# Altium integrated library Silicon Labs Low-Power MCUs.IntLib: 64 symbols (part 1 of 4)
Pins are listed as number, name and electrical type; pins without a type are passive.

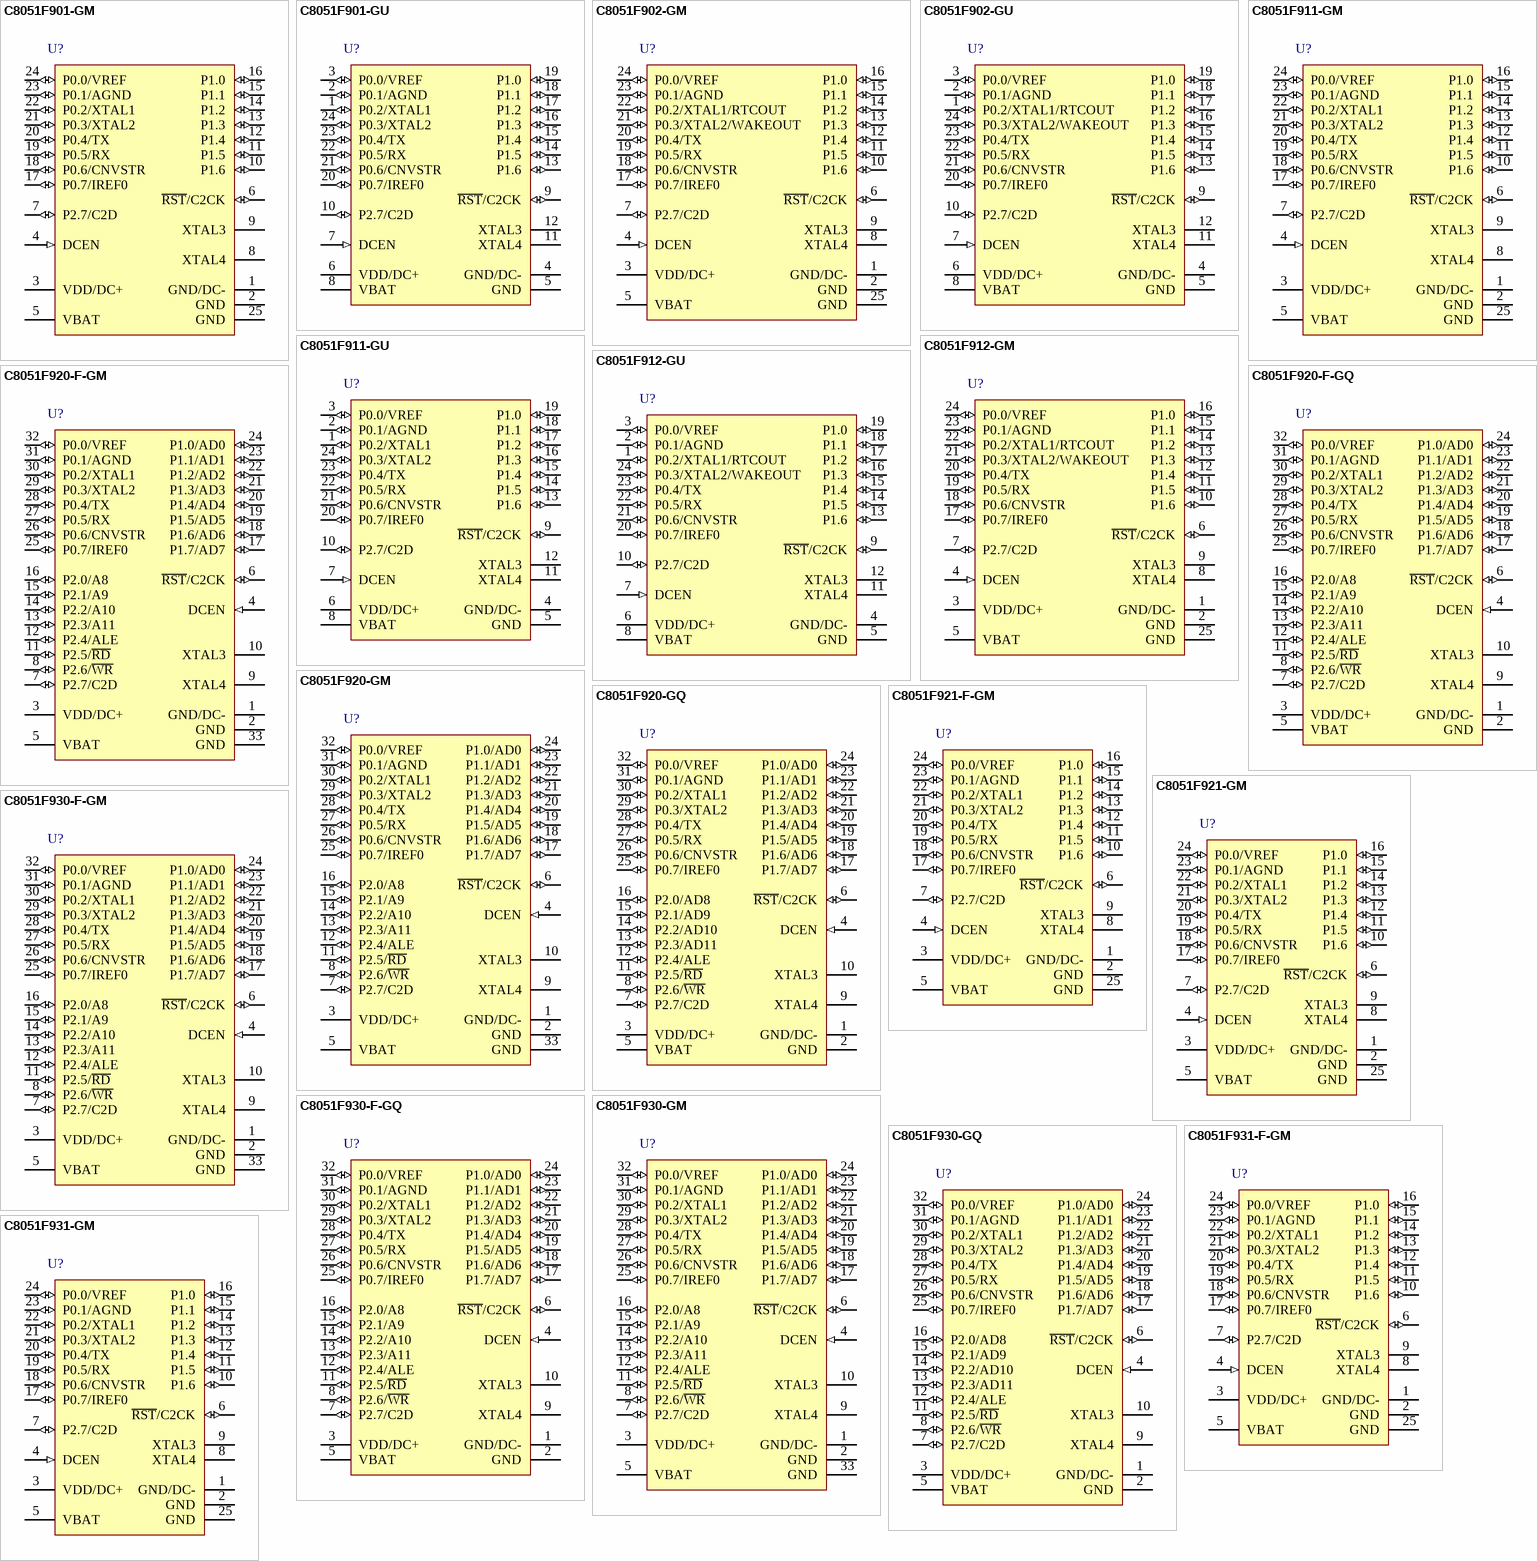
[diagram p0: symbols C8051F901-GM to C8051F931-GM]

## C8051F901-GM
designator U?
Single / Dual Battery, 0.9 to 3.6 V, smaRTClock, 10-Bit ADC MCU, 24.5 MHz, 0.75 kB RAM, 8 kB Flash, -40 to 85 degC, 24-pin QFN; Manufacturer: Silicon Labs; PartNumber: C8051F901-GM; ADC 1: 10-bit, 15-ch., 300 ksps; AEC-Q100: FALSE; Comparators: 2; Debug Interface: C2; Dig I/O Pins: 16; Flash: 8 kB; Internal Osc. Accuracy: +/-2%; MCU Core: 8051; MHz: 24.5; PCA Channels: 6; RAM: 0.75 kB; Temp Sensor: TRUE; Timers (16-bit): 4; Sub-Family: Low-Power MCUs; DatasheetVersion: Rev. 1.1; PackageReference: QFN-24; PackageDescription: 24-Pin Quad-Flat No-Leads Package, Body 4 x 4 mm, Pitch 0.5 mm; Supplier 1: Digi-Key; Supplier Part Number 1: 336-1846-5-ND; Supplier 2: Mouser; Supplier Part Number 2: 634-C8051F901-GM; Mounting Technology: Surface Mount; Code_JEDEC: MO-220; Code_IPC: J-STD-020; ComponentLink1Description: Manufacturer URL; ComponentLink1URL: http://www.silabs.com/; ComponentLink2Description: Datasheet; ComponentLink2URL: http://www.silabs.com/Support Documents/TechnicalDocs/C8051F91x-90x.pdf; ComponentLink3Description: Package Specification; ComponentLink3URL: http://www.silabs.com/Support%20Documents/TechnicalDocs/C8051F93x-92x.pdf
footprint SLAB-QFN-24-2675x2675TP_N (QFN, 24-Leads, Body 4x4mm, Pitch 0.5mm, Thermal Pad 2.68x2.68mm, IPC Medium Density)
footprint SLAB-QFN-24-2675x2675TP_L (QFN, 24-Leads, Body 4x4mm, Pitch 0.5mm, Thermal Pad 2.68x2.68mm, IPC High Density)
footprint SLAB-QFN-24-2675x2675TP_M (QFN, 24-Leads, Body 4x4mm, Pitch 0.5mm, Thermal Pad 2.68x2.68mm, IPC Low Density)
pins: 1 GND/DC- (power), 2 GND (power) "Required Ground.", 3 VDD/DC+ (power), 4 DCEN (in) "DC-DC Enable Pin. In single-cell battery mode, this pin must be connected to VBAT through a 0.68 uH inductor. In dual-cell battery mode, this pin must be connected directly to ground.", 5 VBAT (power) "Battery Supply Voltage.C8051F911/01 devices: Must be 0.9 to 1.8 V in single-cell battery mode and 1.8 to 3.6 V in  dual-cell battery mode.", 6 ~{RST}/C2CK (io), 7 P2.7/C2D (io), 8 XTAL4 "SmaRTClock Oscillator Crystal Output.See Section 20 for a complete description.", 9 XTAL3 "SmaRTClock Oscillator Crystal Input.See Section 20 for a complete description.", 10 P1.6 (io) "Port 1.6.", 11 P1.5 (io) "Port 1.5.", 12 P1.4 (io) "Port 1.4.", 13 P1.3 (io) "Port 1.3.", 14 P1.2 (io) "Port 1.2.", 15 P1.1 (io) "Port 1.1.", 16 P1.0 (io) "Port 1.0.", 17 P0.7/IREF0 (io), 18 P0.6/CNVSTR (io), 19 P0.5/RX (io), 20 P0.4/TX (io), 21 P0.3/XTAL2 (io), 22 P0.2/XTAL1 (io), 23 P0.1/AGND (io), 24 P0.0/VREF (io), 25 GND (power) "GND (Optional Connection)"

## C8051F901-GU
designator U?
Single / Dual Battery, 0.9 to 3.6 V, smaRTClock, 10-Bit ADC MCU, 24.5 MHz, 0.75 kB RAM, 8 kB Flash, -40 to 85 degC, 24-pin SOP; Manufacturer: Silicon Labs; PartNumber: C8051F901-GU; ADC 1: 10-bit, 15-ch., 300 ksps; AEC-Q100: FALSE; Comparators: 2; Debug Interface: C2; Dig I/O Pins: 16; Flash: 8 kB; Internal Osc. Accuracy: +/-2%; MCU Core: 8051; MHz: 24.5; PCA Channels: 6; RAM: 0.75 kB; Temp Sensor: TRUE; Timers (16-bit): 4; Sub-Family: Low-Power MCUs; DatasheetVersion: Rev. 1.1; PackageReference: QSOP-24; PackageDescription: 24-Pin Quarter-Size Small-Outline Package, Body 8.65 x 3.9 mm, Pitch 0.635 mm; Supplier 1: Digi-Key; Supplier Part Number 1: 336-1847-5-ND; Supplier 2: Mouser; Supplier Part Number 2: 634-C8051F901-GU; Mounting Technology: Surface Mount; Code_JEDEC: MO-147; Code_IPC: J-STD-020; ComponentLink1Description: Manufacturer URL; ComponentLink1URL: http://www.silabs.com/; ComponentLink2Description: Datasheet; ComponentLink2URL: http://www.silabs.com/Support Documents/TechnicalDocs/C8051F91x-90x.pdf; ComponentLink3Description: Package Specification; ComponentLink3URL: http://www.silabs.com/Support%20Documents/TechnicalDocs/C8051F99x.pdf
footprint SLAB-QSOP-24_N (SOP, 24-Leads, Body 8.65x3.9mm, Pitch 0.635mm, IPC Medium Density)
footprint SLAB-QSOP-24_L (SOP, 24-Leads, Body 8.65x3.9mm, Pitch 0.635mm, IPC High Density)
footprint SLAB-QSOP-24_M (SOP, 24-Leads, Body 8.65x3.9mm, Pitch 0.635mm, IPC Low Density)
pins: 1 P0.2/XTAL1 (io), 2 P0.1/AGND (io), 3 P0.0/VREF (io), 4 GND/DC- (power), 5 GND (power) "Required Ground.", 6 VDD/DC+ (power), 7 DCEN (in) "DC-DC Enable Pin. In single-cell battery mode, this pin must be connected to VBAT through a 0.68 uH inductor. In dual-cell battery mode, this pin must be connected directly to ground.", 8 VBAT (power) "Battery Supply Voltage.C8051F912/02 devices: Must be 0.9 to 3.6 V in single-cell battery mode and 1.8 to 3.6 V in dual-cell battery mode.", 9 ~{RST}/C2CK (io), 10 P2.7/C2D (io), 11 XTAL4 "SmaRTClock Oscillator Crystal Output.See Section 20 for a complete description.", 12 XTAL3 "SmaRTClock Oscillator Crystal Input.See Section 20 for a complete description.", 13 P1.6 (io) "Port 1.6.", 14 P1.5 (io) "Port 1.5.", 15 P1.4 (io) "Port 1.4.", 16 P1.3 (io) "Port 1.3.", 17 P1.2 (io) "Port 1.2.", 18 P1.1 (io) "Port 1.1.", 19 P1.0 (io) "Port 1.0.", 20 P0.7/IREF0 (io), 21 P0.6/CNVSTR (io), 22 P0.5/RX (io), 23 P0.4/TX (io), 24 P0.3/XTAL2 (io)

## C8051F902-GM
designator U?
Single / Dual Battery, 0.9 to 3.6 V, smaRTClock, 12-Bit ADC MCU, 24.5 MHz, 0.75 kB RAM, 8 kB Flash, -40 to 85 degC, 24-pin QFN; Manufacturer: Silicon Labs; PartNumber: C8051F902-GM; ADC 1: 12-bit, 15-ch., 75 ksps; AEC-Q100: FALSE; Comparators: 2; Debug Interface: C2; Dig I/O Pins: 16; Flash: 8 kB; Internal Osc. Accuracy: +/-2%; MCU Core: 8051; MHz: 24.5; PCA Channels: 6; RAM: 0.75 kB; Temp Sensor: TRUE; Timers (16-bit): 4; Sub-Family: Low-Power MCUs; DatasheetVersion: Rev. 1.1; PackageReference: QFN-24; PackageDescription: 24-Pin Quad-Flat No-Leads Package, Body 4 x 4 mm, Pitch 0.5 mm; Supplier 1: Digi-Key; Supplier Part Number 1: 336-1848-5-ND; Supplier 2: Mouser; Supplier Part Number 2: 634-C8051F902-GM; Mounting Technology: Surface Mount; Code_JEDEC: MO-220; Code_IPC: J-STD-020; ComponentLink1Description: Manufacturer URL; ComponentLink1URL: http://www.silabs.com/; ComponentLink2Description: Datasheet; ComponentLink2URL: http://www.silabs.com/Support Documents/TechnicalDocs/C8051F91x-90x.pdf; ComponentLink3Description: Package Specification; ComponentLink3URL: http://www.silabs.com/Support%20Documents/TechnicalDocs/C8051F93x-92x.pdf
footprint SLAB-QFN-24-2675x2675TP_N (QFN, 24-Leads, Body 4x4mm, Pitch 0.5mm, Thermal Pad 2.68x2.68mm, IPC Medium Density)
footprint SLAB-QFN-24-2675x2675TP_L (QFN, 24-Leads, Body 4x4mm, Pitch 0.5mm, Thermal Pad 2.68x2.68mm, IPC High Density)
footprint SLAB-QFN-24-2675x2675TP_M (QFN, 24-Leads, Body 4x4mm, Pitch 0.5mm, Thermal Pad 2.68x2.68mm, IPC Low Density)
pins: 1 GND/DC- (power), 2 GND (power) "Required Ground.", 3 VDD/DC+ (power), 4 DCEN (in) "DC-DC Enable Pin. In single-cell battery mode, this pin must be connected to VBAT through a 0.68 uH inductor. In dual-cell battery mode, this pin must be connected directly to ground.", 5 VBAT (power) "Battery Supply Voltage.C8051F912/02 devices: Must be 0.9 to 3.6 V in single-cell battery mode and 1.8 to 3.6 V in dual-cell battery mode.", 6 ~{RST}/C2CK (io), 7 P2.7/C2D (io), 8 XTAL4 "SmaRTClock Oscillator Crystal Output.See Section 20 for a complete description.", 9 XTAL3 "SmaRTClock Oscillator Crystal Input.See Section 20 for a complete description.", 10 P1.6 (io) "Port 1.6.", 11 P1.5 (io) "Port 1.5.", 12 P1.4 (io) "Port 1.4.", 13 P1.3 (io) "Port 1.3.", 14 P1.2 (io) "Port 1.2.", 15 P1.1 (io) "Port 1.1.", 16 P1.0 (io) "Port 1.0.", 17 P0.7/IREF0 (io), 18 P0.6/CNVSTR (io), 19 P0.5/RX (io), 20 P0.4/TX (io), 21 P0.3/XTAL2/WAKEOUT (io), 22 P0.2/XTAL1/RTCOUT (io), 23 P0.1/AGND (io), 24 P0.0/VREF (io), 25 GND (power) "GND (Optional Connection)"

## C8051F902-GU
designator U?
Single / Dual Battery, 0.9 to 3.6 V, smaRTClock, 12-Bit ADC MCU, 24.5 MHz, 0.75 kB RAM, 8 kB Flash, -40 to 85 degC, 24-pin SOP; Manufacturer: Silicon Labs; PartNumber: C8051F902-GU; ADC 1: 12-bit, 15-ch., 75 ksps; AEC-Q100: FALSE; Comparators: 2; Debug Interface: C2; Dig I/O Pins: 16; Flash: 8 kB; Internal Osc. Accuracy: +/-2%; MCU Core: 8051; MHz: 24.5; PCA Channels: 6; RAM: 0.75 kB; Temp Sensor: TRUE; Timers (16-bit): 4; Sub-Family: Low-Power MCUs; DatasheetVersion: Rev. 1.1; PackageReference: QSOP-24; PackageDescription: 24-Pin Quarter-Size Small-Outline Package, Body 8.65 x 3.9 mm, Pitch 0.635 mm; Supplier 1: Digi-Key; Supplier Part Number 1: 336-1849-5-ND; Supplier 2: Mouser; Supplier Part Number 2: 634-C8051F902-GU; Mounting Technology: Surface Mount; Code_JEDEC: MO-147; Code_IPC: J-STD-020; ComponentLink1Description: Manufacturer URL; ComponentLink1URL: http://www.silabs.com/; ComponentLink2Description: Datasheet; ComponentLink2URL: http://www.silabs.com/Support Documents/TechnicalDocs/C8051F91x-90x.pdf; ComponentLink3Description: Package Specification; ComponentLink3URL: http://www.silabs.com/Support%20Documents/TechnicalDocs/C8051F99x.pdf
footprint SLAB-QSOP-24_N (SOP, 24-Leads, Body 8.65x3.9mm, Pitch 0.635mm, IPC Medium Density)
footprint SLAB-QSOP-24_L (SOP, 24-Leads, Body 8.65x3.9mm, Pitch 0.635mm, IPC High Density)
footprint SLAB-QSOP-24_M (SOP, 24-Leads, Body 8.65x3.9mm, Pitch 0.635mm, IPC Low Density)
pins: 1 P0.2/XTAL1/RTCOUT (io), 2 P0.1/AGND (io), 3 P0.0/VREF (io), 4 GND/DC- (power), 5 GND (power) "Required Ground.", 6 VDD/DC+ (power), 7 DCEN (in) "DC-DC Enable Pin. In single-cell battery mode, this pin must be connected to VBAT through a 0.68 uH inductor. In dual-cell battery mode, this pin must be connected directly to ground.", 8 VBAT (power) "Battery Supply Voltage.C8051F912/02 devices: Must be 0.9 to 3.6 V in single-cell battery mode and 1.8 to 3.6 V in dual-cell battery mode.", 9 ~{RST}/C2CK (io), 10 P2.7/C2D (io), 11 XTAL4 "SmaRTClock Oscillator Crystal Output.See Section 20 for a complete description.", 12 XTAL3 "SmaRTClock Oscillator Crystal Input.See Section 20 for a complete description.", 13 P1.6 (io) "Port 1.6.", 14 P1.5 (io) "Port 1.5.", 15 P1.4 (io) "Port 1.4.", 16 P1.3 (io) "Port 1.3.", 17 P1.2 (io) "Port 1.2.", 18 P1.1 (io) "Port 1.1.", 19 P1.0 (io) "Port 1.0.", 20 P0.7/IREF0 (io), 21 P0.6/CNVSTR (io), 22 P0.5/RX (io), 23 P0.4/TX (io), 24 P0.3/XTAL2/WAKEOUT (io)

## C8051F911-GM
designator U?
Single / Dual Battery, 0.9 to 3.6 V, smaRTClock, 10-Bit ADC MCU, 24.5 MHz, 0.75 kB RAM, 16 kB Flash, -40 to 85 degC, 24-pin QFN; Manufacturer: Silicon Labs; PartNumber: C8051F911-GM; ADC 1: 10-bit, 15-ch., 300 ksps; AEC-Q100: FALSE; Comparators: 2; Debug Interface: C2; Dig I/O Pins: 16; Flash: 16 kB; Internal Osc. Accuracy: +/-2%; MCU Core: 8051; MHz: 24.5; PCA Channels: 6; RAM: 0.75 kB; Temp Sensor: TRUE; Timers (16-bit): 4; Sub-Family: Low-Power MCUs; DatasheetVersion: Rev. 1.1; PackageReference: QFN-24; PackageDescription: 24-Pin Quad-Flat No-Leads Package, Body 4 x 4 mm, Pitch 0.5 mm; Supplier 1: Digi-Key; Supplier Part Number 1: 336-1850-5-ND; Supplier 2: Mouser; Supplier Part Number 2: 634-C8051F911-GM; Mounting Technology: Surface Mount; Code_JEDEC: MO-220; Code_IPC: J-STD-020; ComponentLink1Description: Manufacturer URL; ComponentLink1URL: http://www.silabs.com/; ComponentLink2Description: Datasheet; ComponentLink2URL: http://www.silabs.com/Support Documents/TechnicalDocs/C8051F91x-90x.pdf; ComponentLink3Description: Package Specification; ComponentLink3URL: http://www.silabs.com/Support%20Documents/TechnicalDocs/C8051F93x-92x.pdf
footprint SLAB-QFN-24-2675x2675TP_N (QFN, 24-Leads, Body 4x4mm, Pitch 0.5mm, Thermal Pad 2.68x2.68mm, IPC Medium Density)
footprint SLAB-QFN-24-2675x2675TP_L (QFN, 24-Leads, Body 4x4mm, Pitch 0.5mm, Thermal Pad 2.68x2.68mm, IPC High Density)
footprint SLAB-QFN-24-2675x2675TP_M (QFN, 24-Leads, Body 4x4mm, Pitch 0.5mm, Thermal Pad 2.68x2.68mm, IPC Low Density)
pins: 1 GND/DC- (power), 2 GND (power) "Required Ground.", 3 VDD/DC+ (power), 4 DCEN (in) "DC-DC Enable Pin. In single-cell battery mode, this pin must be connected to VBAT through a 0.68 uH inductor. In dual-cell battery mode, this pin must be connected directly to ground.", 5 VBAT (power) "Battery Supply Voltage.C8051F911/01 devices: Must be 0.9 to 1.8 V in single-cell battery mode and 1.8 to 3.6 V in  dual-cell battery mode.", 6 ~{RST}/C2CK (io), 7 P2.7/C2D (io), 8 XTAL4 "SmaRTClock Oscillator Crystal Output.See Section 20 for a complete description.", 9 XTAL3 "SmaRTClock Oscillator Crystal Input.See Section 20 for a complete description.", 10 P1.6 (io) "Port 1.6.", 11 P1.5 (io) "Port 1.5.", 12 P1.4 (io) "Port 1.4.", 13 P1.3 (io) "Port 1.3.", 14 P1.2 (io) "Port 1.2.", 15 P1.1 (io) "Port 1.1.", 16 P1.0 (io) "Port 1.0.", 17 P0.7/IREF0 (io), 18 P0.6/CNVSTR (io), 19 P0.5/RX (io), 20 P0.4/TX (io), 21 P0.3/XTAL2 (io), 22 P0.2/XTAL1 (io), 23 P0.1/AGND (io), 24 P0.0/VREF (io), 25 GND (power) "GND (Optional Connection)"

## C8051F911-GU
designator U?
Single / Dual Battery, 0.9 to 3.6 V, smaRTClock, 10-Bit ADC MCU, 24.5 MHz, 0.75 kB RAM, 16 kB Flash, -40 to 85 degC, 24-pin SOP; Manufacturer: Silicon Labs; PartNumber: C8051F911-GU; ADC 1: 10-bit, 15-ch., 300 ksps; AEC-Q100: FALSE; Comparators: 2; Debug Interface: C2; Dig I/O Pins: 16; Flash: 16 kB; Internal Osc. Accuracy: +/-2%; MCU Core: 8051; MHz: 24.5; PCA Channels: 6; RAM: 0.75 kB; Temp Sensor: TRUE; Timers (16-bit): 4; Sub-Family: Low-Power MCUs; DatasheetVersion: Rev. 1.1; PackageReference: QSOP-24; PackageDescription: 24-Pin Quarter-Size Small-Outline Package, Body 8.65 x 3.9 mm, Pitch 0.635 mm; Supplier 1: Digi-Key; Supplier Part Number 1: 336-1851-5-ND; Supplier 2: Mouser; Supplier Part Number 2: 634-C8051F911-GU; Mounting Technology: Surface Mount; Code_JEDEC: MO-147; Code_IPC: J-STD-020; ComponentLink1Description: Manufacturer URL; ComponentLink1URL: http://www.silabs.com/; ComponentLink2Description: Datasheet; ComponentLink2URL: http://www.silabs.com/Support Documents/TechnicalDocs/C8051F91x-90x.pdf; ComponentLink3Description: Package Specification; ComponentLink3URL: http://www.silabs.com/Support%20Documents/TechnicalDocs/C8051F99x.pdf
footprint SLAB-QSOP-24_N (SOP, 24-Leads, Body 8.65x3.9mm, Pitch 0.635mm, IPC Medium Density)
footprint SLAB-QSOP-24_L (SOP, 24-Leads, Body 8.65x3.9mm, Pitch 0.635mm, IPC High Density)
footprint SLAB-QSOP-24_M (SOP, 24-Leads, Body 8.65x3.9mm, Pitch 0.635mm, IPC Low Density)
pins: 1 P0.2/XTAL1 (io), 2 P0.1/AGND (io), 3 P0.0/VREF (io), 4 GND/DC- (power), 5 GND (power) "Required Ground.", 6 VDD/DC+ (power), 7 DCEN (in) "DC-DC Enable Pin. In single-cell battery mode, this pin must be connected to VBAT through a 0.68 uH inductor. In dual-cell battery mode, this pin must be connected directly to ground.", 8 VBAT (power) "Battery Supply Voltage.C8051F912/02 devices: Must be 0.9 to 3.6 V in single-cell battery mode and 1.8 to 3.6 V in dual-cell battery mode.", 9 ~{RST}/C2CK (io), 10 P2.7/C2D (io), 11 XTAL4 "SmaRTClock Oscillator Crystal Output.See Section 20 for a complete description.", 12 XTAL3 "SmaRTClock Oscillator Crystal Input.See Section 20 for a complete description.", 13 P1.6 (io) "Port 1.6.", 14 P1.5 (io) "Port 1.5.", 15 P1.4 (io) "Port 1.4.", 16 P1.3 (io) "Port 1.3.", 17 P1.2 (io) "Port 1.2.", 18 P1.1 (io) "Port 1.1.", 19 P1.0 (io) "Port 1.0.", 20 P0.7/IREF0 (io), 21 P0.6/CNVSTR (io), 22 P0.5/RX (io), 23 P0.4/TX (io), 24 P0.3/XTAL2 (io)

## C8051F912-GM
designator U?
Single / Dual Battery, 0.9 to 3.6 V, smaRTClock, 12-Bit ADC MCU, 24.5 MHz, 0.75 kB RAM, 16 kB Flash, -40 to 85 degC, 24-pin QFN; Manufacturer: Silicon Labs; PartNumber: C8051F912-GM; ADC 1: 12-bit, 15-ch., 75 ksps; AEC-Q100: FALSE; Comparators: 2; Debug Interface: C2; Dig I/O Pins: 16; Flash: 16 kB; Internal Osc. Accuracy: +/-2%; MCU Core: 8051; MHz: 24.5; PCA Channels: 6; RAM: 0.75 kB; Temp Sensor: TRUE; Timers (16-bit): 4; Sub-Family: Low-Power MCUs; DatasheetVersion: Rev. 1.1; PackageReference: QFN-24; PackageDescription: 24-Pin Quad-Flat No-Leads Package, Body 4 x 4 mm, Pitch 0.5 mm; Supplier 1: Digi-Key; Supplier Part Number 1: C8051F912-GM-ND; Supplier 2: Mouser; Supplier Part Number 2: 634-C8051F912-GM; Mounting Technology: Surface Mount; Code_JEDEC: MO-220; Code_IPC: J-STD-020; ComponentLink1Description: Manufacturer URL; ComponentLink1URL: http://www.silabs.com/; ComponentLink2Description: Datasheet; ComponentLink2URL: http://www.silabs.com/Support Documents/TechnicalDocs/C8051F91x-90x.pdf; ComponentLink3Description: Package Specification; ComponentLink3URL: http://www.silabs.com/Support%20Documents/TechnicalDocs/C8051F93x-92x.pdf
footprint SLAB-QFN-24-2675x2675TP_N (QFN, 24-Leads, Body 4x4mm, Pitch 0.5mm, Thermal Pad 2.68x2.68mm, IPC Medium Density)
footprint SLAB-QFN-24-2675x2675TP_L (QFN, 24-Leads, Body 4x4mm, Pitch 0.5mm, Thermal Pad 2.68x2.68mm, IPC High Density)
footprint SLAB-QFN-24-2675x2675TP_M (QFN, 24-Leads, Body 4x4mm, Pitch 0.5mm, Thermal Pad 2.68x2.68mm, IPC Low Density)
pins: 1 GND/DC- (power), 2 GND (power) "Required Ground.", 3 VDD/DC+ (power), 4 DCEN (in) "DC-DC Enable Pin. In single-cell battery mode, this pin must be connected to VBAT through a 0.68 uH inductor. In dual-cell battery mode, this pin must be connected directly to ground.", 5 VBAT (power) "Battery Supply Voltage.C8051F912/02 devices: Must be 0.9 to 3.6 V in single-cell battery mode and 1.8 to 3.6 V in dual-cell battery mode.", 6 ~{RST}/C2CK (io), 7 P2.7/C2D (io), 8 XTAL4 "SmaRTClock Oscillator Crystal Output.See Section 20 for a complete description.", 9 XTAL3 "SmaRTClock Oscillator Crystal Input.See Section 20 for a complete description.", 10 P1.6 (io) "Port 1.6.", 11 P1.5 (io) "Port 1.5.", 12 P1.4 (io) "Port 1.4.", 13 P1.3 (io) "Port 1.3.", 14 P1.2 (io) "Port 1.2.", 15 P1.1 (io) "Port 1.1.", 16 P1.0 (io) "Port 1.0.", 17 P0.7/IREF0 (io), 18 P0.6/CNVSTR (io), 19 P0.5/RX (io), 20 P0.4/TX (io), 21 P0.3/XTAL2/WAKEOUT (io), 22 P0.2/XTAL1/RTCOUT (io), 23 P0.1/AGND (io), 24 P0.0/VREF (io), 25 GND (power) "GND (Optional Connection)"

## C8051F912-GU
designator U?
Single / Dual Battery, 0.9 to 3.6 V, smaRTClock, 12-Bit ADC MCU, 24.5 MHz, 0.75 kB RAM, 16 kB Flash, -40 to 85 degC, 24-pin SOP; Manufacturer: Silicon Labs; PartNumber: C8051F912-GU; ADC 1: 12-bit, 15-ch., 75 ksps; AEC-Q100: FALSE; Comparators: 2; Debug Interface: C2; Dig I/O Pins: 16; Flash: 16 kB; Internal Osc. Accuracy: +/-2%; MCU Core: 8051; MHz: 24.5; PCA Channels: 6; RAM: 0.75 kB; Temp Sensor: TRUE; Timers (16-bit): 4; Sub-Family: Low-Power MCUs; DatasheetVersion: Rev. 1.1; PackageReference: QSOP-24; PackageDescription: 24-Pin Quarter-Size Small-Outline Package, Body 8.65 x 3.9 mm, Pitch 0.635 mm; Supplier 1: Digi-Key; Supplier Part Number 1: 336-1852-5-ND; Supplier 2: Mouser; Supplier Part Number 2: 634-C8051F912-GU; Mounting Technology: Surface Mount; Code_JEDEC: MO-147; Code_IPC: J-STD-020; ComponentLink1Description: Manufacturer URL; ComponentLink1URL: http://www.silabs.com/; ComponentLink2Description: Datasheet; ComponentLink2URL: http://www.silabs.com/Support Documents/TechnicalDocs/C8051F91x-90x.pdf; ComponentLink3Description: Package Specification; ComponentLink3URL: http://www.silabs.com/Support%20Documents/TechnicalDocs/C8051F99x.pdf
footprint SLAB-QSOP-24_N (SOP, 24-Leads, Body 8.65x3.9mm, Pitch 0.635mm, IPC Medium Density)
footprint SLAB-QSOP-24_L (SOP, 24-Leads, Body 8.65x3.9mm, Pitch 0.635mm, IPC High Density)
footprint SLAB-QSOP-24_M (SOP, 24-Leads, Body 8.65x3.9mm, Pitch 0.635mm, IPC Low Density)
pins: 1 P0.2/XTAL1/RTCOUT (io), 2 P0.1/AGND (io), 3 P0.0/VREF (io), 4 GND/DC- (power), 5 GND (power) "Required Ground.", 6 VDD/DC+ (power), 7 DCEN (in) "DC-DC Enable Pin. In single-cell battery mode, this pin must be connected to VBAT through a 0.68 uH inductor. In dual-cell battery mode, this pin must be connected directly to ground.", 8 VBAT (power) "Battery Supply Voltage.C8051F912/02 devices: Must be 0.9 to 3.6 V in single-cell battery mode and 1.8 to 3.6 V in dual-cell battery mode.", 9 ~{RST}/C2CK (io), 10 P2.7/C2D (io), 11 XTAL4 "SmaRTClock Oscillator Crystal Output.See Section 20 for a complete description.", 12 XTAL3 "SmaRTClock Oscillator Crystal Input.See Section 20 for a complete description.", 13 P1.6 (io) "Port 1.6.", 14 P1.5 (io) "Port 1.5.", 15 P1.4 (io) "Port 1.4.", 16 P1.3 (io) "Port 1.3.", 17 P1.2 (io) "Port 1.2.", 18 P1.1 (io) "Port 1.1.", 19 P1.0 (io) "Port 1.0.", 20 P0.7/IREF0 (io), 21 P0.6/CNVSTR (io), 22 P0.5/RX (io), 23 P0.4/TX (io), 24 P0.3/XTAL2/WAKEOUT (io)

## C8051F920-F-GM
designator U?
Single / Dual Battery, 0.9 to 3.6 V, smaRTClock, 10-Bit ADC MCU, 25 MHz, 4.25 kB RAM, 32 kB Flash, -40 to 85 degC, 32-pin QFN; Manufacturer: Silicon Labs; PartNumber: C8051F920-F-GM; ADC 1: 10-bit, 23-ch., 300 ksps; AEC-Q100: FALSE; Comparators: 2; Debug Interface: C2; Dig I/O Pins: 24; Flash: 32 kB; Internal Osc. Accuracy: +/-2%; MCU Core: 8051; MHz: 25; PCA Channels: 6; RAM: 4.25 kB; Temp Sensor: TRUE; Timers (16-bit): 4; Sub-Family: Low-Power MCUs; DatasheetVersion: Rev. 1.3; PackageReference: QFN-32; PackageDescription: 32-Pin Quad-Flat No-Leads Package, Body 5 x 5 mm, Pitch 0.5 mm; Supplier 1: Digi-Key; Supplier Part Number 1: C8051F920-F-GM-ND; Supplier 2: Mouser; Supplier Part Number 2: 634-C8051F920-F-GM; Mounting Technology: Surface Mount; Code_JEDEC: MO-220; Code_IPC: J-STD-020; ComponentLink1Description: Manufacturer URL; ComponentLink1URL: http://www.silabs.com/; ComponentLink2Description: Datasheet; ComponentLink2URL: http://www.silabs.com/Support Documents/TechnicalDocs/C8051F96x.pdf; ComponentLink3Description: Package Specification; ComponentLink3URL: http://www.silabs.com/Support%20Documents/TechnicalDocs/C8051F50x-51x.pdf
footprint SLAB-QFN-32-3300x3300TP_N (QFN, 32-Leads, Body 5x5mm, Pitch 0.5mm, Thermal Pad 3.3x3.3mm, IPC Medium Density)
footprint SLAB-QFN-32-3300x3300TP_L (QFN, 32-Leads, Body 5x5mm, Pitch 0.5mm, Thermal Pad 3.3x3.3mm, IPC High Density)
footprint SLAB-QFN-32-3300x3300TP_M (QFN, 32-Leads, Body 5x5mm, Pitch 0.5mm, Thermal Pad 3.3x3.3mm, IPC Low Density)
pins: 1 GND/DC- (power), 2 GND (power), 3 VDD/DC+ (power), 4 DCEN (in) "DC-DC Enable Pin. In single-cell battery mode, this pin  must be connected to VBAT through a 0.68 uH inductor. In dual-cell battery mode, this pin must be connected  directly to ground.", 5 VBAT (power) "Battery Supply Voltage. Must be 0.9 to 1.8 V in single-cell  battery mode and 1.8 to 3.6 V in dual-cell battery mode.", 6 ~{RST}/C2CK (io), 7 P2.7/C2D (io), 8 P2.6/~{WR} (io), 9 XTAL4 "SmaRTClock Oscillator Crystal Output. See Section 20 for a complete description.", 10 XTAL3 "SmaRTClock Oscillator Crystal Input. See Section 20 for a complete description.", 11 P2.5/~{RD} (io), 12 P2.4/ALE (io), 13 P2.3/A11 (io), 14 P2.2/A10 (io), 15 P2.1/A9 (io), 16 P2.0/A8 (io), 17 P1.7/AD7 (io), 18 P1.6/AD6 (io), 19 P1.5/AD5 (io), 20 P1.4/AD4 (io), 21 P1.3/AD3 (io), 22 P1.2/AD2 (io), 23 P1.1/AD1 (io), 24 P1.0/AD0 (io), 25 P0.7/IREF0 (io), 26 P0.6/CNVSTR (io), 27 P0.5/RX (io), 28 P0.4/TX (io), 29 P0.3/XTAL2 (io), 30 P0.2/XTAL1 (io), 31 P0.1/AGND (io), 32 P0.0/VREF (io), 33 GND (power) "GND (optional)"

## C8051F920-F-GQ
designator U?
Single / Dual Battery, 0.9 to 3.6 V, smaRTClock, 10-Bit ADC MCU, 25 MHz, 4.25 kB RAM, 32 kB Flash, -40 to 85 degC, 32-pin QFP; Manufacturer: Silicon Labs; PartNumber: C8051F920-F-GQ; ADC 1: 10-bit, 23-ch., 300 ksps; AEC-Q100: FALSE; Comparators: 2; Debug Interface: C2; Dig I/O Pins: 24; Flash: 32 kB; Internal Osc. Accuracy: +/-2%; MCU Core: 8051; MHz: 25; PCA Channels: 6; RAM: 4.25 kB; Temp Sensor: TRUE; Timers (16-bit): 4; Sub-Family: Low-Power MCUs; DatasheetVersion: Rev. 1.3; PackageReference: LQFP-32; PackageDescription: 32-Pin Low-Profile Quad Flat Pack, Body 7 x 7 mm, Pitch 0.8 mm; Supplier 1: Digi-Key; Supplier Part Number 1: C8051F920-F-GQ-ND; Supplier 2: Mouser; Supplier Part Number 2: 634-C8051F920-F-GQ; Mounting Technology: Surface Mount; Code_JEDEC: MS-026; Code_IPC: J-STD-020; ComponentLink1Description: Manufacturer URL; ComponentLink1URL: http://www.silabs.com/; ComponentLink2Description: Datasheet; ComponentLink2URL: http://www.silabs.com/Support Documents/TechnicalDocs/C8051F96x.pdf; ComponentLink3Description: Package Specification; ComponentLink3URL: http://www.silabs.com/Support%20Documents/TechnicalDocs/C8051F38x.pdf
footprint SLAB-LQFP-32_N (QFP, 32-Leads, Body 7x7mm, Pitch 0.8mm, IPC Medium Density)
footprint SLAB-LQFP-32_L (QFP, 32-Leads, Body 7x7mm, Pitch 0.8mm, IPC High Density)
footprint SLAB-LQFP-32_M (QFP, 32-Leads, Body 7x7mm, Pitch 0.8mm, IPC Low Density)
pins: 1 GND/DC- (power), 2 GND (power), 3 VDD/DC+ (power), 4 DCEN (in) "DC-DC Enable Pin. In single-cell battery mode, this pin  must be connected to VBAT through a 0.68 uH inductor. In dual-cell battery mode, this pin must be connected  directly to ground.", 5 VBAT (power) "Battery Supply Voltage. Must be 0.9 to 1.8 V in single-cell  battery mode and 1.8 to 3.6 V in dual-cell battery mode.", 6 ~{RST}/C2CK (io), 7 P2.7/C2D (io), 8 P2.6/~{WR} (io), 9 XTAL4 "SmaRTClock Oscillator Crystal Output. See Section 20 for a complete description.", 10 XTAL3 "SmaRTClock Oscillator Crystal Input. See Section 20 for a complete description.", 11 P2.5/~{RD} (io), 12 P2.4/ALE (io), 13 P2.3/A11 (io), 14 P2.2/A10 (io), 15 P2.1/A9 (io), 16 P2.0/A8 (io), 17 P1.7/AD7 (io), 18 P1.6/AD6 (io), 19 P1.5/AD5 (io), 20 P1.4/AD4 (io), 21 P1.3/AD3 (io), 22 P1.2/AD2 (io), 23 P1.1/AD1 (io), 24 P1.0/AD0 (io), 25 P0.7/IREF0 (io), 26 P0.6/CNVSTR (io), 27 P0.5/RX (io), 28 P0.4/TX (io), 29 P0.3/XTAL2 (io), 30 P0.2/XTAL1 (io), 31 P0.1/AGND (io), 32 P0.0/VREF (io)

## C8051F920-GM
designator U?
Single / Dual Battery, 0.9 to 3.6 V, smaRTClock, 10-Bit ADC MCU, 25 MHz, 4.25 kB RAM, 32 kB Flash, -40 to 85 degC, 32-pin QFN; Manufacturer: Silicon Labs; PartNumber: C8051F920-GM; ADC 1: 10-bit, 23-ch., 300 ksps; AEC-Q100: FALSE; Comparators: 2; Debug Interface: C2; Dig I/O Pins: 24; Flash: 32 kB; Internal Osc. Accuracy: +/-2%; MCU Core: 8051; MHz: 25; PCA Channels: 6; RAM: 4.25 kB; Temp Sensor: TRUE; Timers (16-bit): 4; Sub-Family: Low-Power MCUs; DatasheetVersion: Rev. 1.3; PackageReference: QFN-32; PackageDescription: 32-Pin Quad-Flat No-Leads Package, Body 5 x 5 mm, Pitch 0.5 mm; Supplier 1: Digi-Key; Supplier Part Number 1: 336-1470-ND; Supplier 2: Mouser; Supplier Part Number 2: 634-C8051F920-GM; Mounting Technology: Surface Mount; Code_JEDEC: MO-220; Code_IPC: J-STD-020; ComponentLink1Description: Manufacturer URL; ComponentLink1URL: http://www.silabs.com/; ComponentLink2Description: Datasheet; ComponentLink2URL: http://www.silabs.com/Support Documents/TechnicalDocs/C8051F93x-92x.pdf; ComponentLink3Description: Package Specification; ComponentLink3URL: http://www.silabs.com/Support%20Documents/TechnicalDocs/C8051F50x-51x.pdf
footprint SLAB-QFN-32-3300x3300TP_N (QFN, 32-Leads, Body 5x5mm, Pitch 0.5mm, Thermal Pad 3.3x3.3mm, IPC Medium Density)
footprint SLAB-QFN-32-3300x3300TP_L (QFN, 32-Leads, Body 5x5mm, Pitch 0.5mm, Thermal Pad 3.3x3.3mm, IPC High Density)
footprint SLAB-QFN-32-3300x3300TP_M (QFN, 32-Leads, Body 5x5mm, Pitch 0.5mm, Thermal Pad 3.3x3.3mm, IPC Low Density)
pins: 1 GND/DC- (power), 2 GND (power), 3 VDD/DC+ (power), 4 DCEN (in) "DC-DC Enable Pin. In single-cell battery mode, this pin  must be connected to VBAT through a 0.68 uH inductor. In dual-cell battery mode, this pin must be connected  directly to ground.", 5 VBAT (power) "Battery Supply Voltage. Must be 0.9 to 1.8 V in single-cell  battery mode and 1.8 to 3.6 V in dual-cell battery mode.", 6 ~{RST}/C2CK (io), 7 P2.7/C2D (io), 8 P2.6/~{WR} (io), 9 XTAL4 "SmaRTClock Oscillator Crystal Output. See Section 20 for a complete description.", 10 XTAL3 "SmaRTClock Oscillator Crystal Input. See Section 20 for a complete description.", 11 P2.5/~{RD} (io), 12 P2.4/ALE (io), 13 P2.3/A11 (io), 14 P2.2/A10 (io), 15 P2.1/A9 (io), 16 P2.0/A8 (io), 17 P1.7/AD7 (io), 18 P1.6/AD6 (io), 19 P1.5/AD5 (io), 20 P1.4/AD4 (io), 21 P1.3/AD3 (io), 22 P1.2/AD2 (io), 23 P1.1/AD1 (io), 24 P1.0/AD0 (io), 25 P0.7/IREF0 (io), 26 P0.6/CNVSTR (io), 27 P0.5/RX (io), 28 P0.4/TX (io), 29 P0.3/XTAL2 (io), 30 P0.2/XTAL1 (io), 31 P0.1/AGND (io), 32 P0.0/VREF (io), 33 GND (power) "GND (optional)"

## C8051F920-GQ
designator U?
Single / Dual Battery, 0.9 to 3.6 V, smaRTClock, 10-Bit ADC MCU, 25 MHz, 4.25 kB RAM, 32 kB Flash, -40 to 85 degC, 32-pin QFP; Manufacturer: Silicon Labs; PartNumber: C8051F920-GQ; ADC 1: 10-bit, 23-ch., 300 ksps; AEC-Q100: FALSE; Comparators: 2; Debug Interface: C2; Dig I/O Pins: 24; Flash: 32 kB; Internal Osc. Accuracy: +/-2%; MCU Core: 8051; MHz: 25; PCA Channels: 6; RAM: 4.25 kB; Temp Sensor: TRUE; Timers (16-bit): 4; Sub-Family: Low-Power MCUs; DatasheetVersion: Rev. 1.3; PackageReference: LQFP-32; PackageDescription: 32-Pin Low-Profile Quad Flat Pack, Body 7 x 7 mm, Pitch 0.8 mm; Supplier 1: Digi-Key; Supplier Part Number 1: 336-1469-ND; Supplier 2: Mouser; Supplier Part Number 2: 634-C8051F920-GQ; Mounting Technology: Surface Mount; Code_JEDEC: MS-026; Code_IPC: J-STD-020; ComponentLink1Description: Manufacturer URL; ComponentLink1URL: http://www.silabs.com/; ComponentLink2Description: Datasheet; ComponentLink2URL: http://www.silabs.com/Support Documents/TechnicalDocs/C8051F93x-92x.pdf; ComponentLink3Description: Package Specification; ComponentLink3URL: http://www.silabs.com/Support%20Documents/TechnicalDocs/C8051F38x.pdf
footprint SLAB-LQFP-32_N (QFP, 32-Leads, Body 7x7mm, Pitch 0.8mm, IPC Medium Density)
footprint SLAB-LQFP-32_L (QFP, 32-Leads, Body 7x7mm, Pitch 0.8mm, IPC High Density)
footprint SLAB-LQFP-32_M (QFP, 32-Leads, Body 7x7mm, Pitch 0.8mm, IPC Low Density)
pins: 1 GND/DC- (power), 2 GND (power), 3 VDD/DC+ (power), 4 DCEN (in) "DC-DC Enable Pin. In single-cell battery mode, this pin  must be connected to VBAT through a 0.68 uH inductor. In dual-cell battery mode, this pin must be connected  directly to ground.", 5 VBAT (power) "Battery Supply Voltage. Must be 0.9 to 1.8 V in single-cell  battery mode and 1.8 to 3.6 V in dual-cell battery mode.", 6 ~{RST}/C2CK (io), 7 P2.7/C2D (io), 8 P2.6/~{WR} (io), 9 XTAL4 "SmaRTClock Oscillator Crystal Output. See Section 20 for a complete description.", 10 XTAL3 "SmaRTClock Oscillator Crystal Input. See Section 20 for a complete description.", 11 P2.5/~{RD} (io), 12 P2.4/ALE (io), 13 P2.3/AD11 (io), 14 P2.2/AD10 (io), 15 P2.1/AD9 (io), 16 P2.0/AD8 (io), 17 P1.7/AD7 (io), 18 P1.6/AD6 (io), 19 P1.5/AD5 (io), 20 P1.4/AD4 (io), 21 P1.3/AD3 (io), 22 P1.2/AD2 (io), 23 P1.1/AD1 (io), 24 P1.0/AD0 (io), 25 P0.7/IREF0 (io), 26 P0.6/CNVSTR (io), 27 P0.5/RX (io), 28 P0.4/TX (io), 29 P0.3/XTAL2 (io), 30 P0.2/XTAL1 (io), 31 P0.1/AGND (io), 32 P0.0/VREF (io)

## C8051F921-F-GM
designator U?
Single / Dual Battery, 0.9 to 3.6 V, smaRTClock, 10-Bit ADC MCU, 25 MHz, 4.25 kB RAM, 32 kB Flash, -40 to 85 degC, 24-pin QFN; Manufacturer: Silicon Labs; PartNumber: C8051F921-F-GM; ADC 1: 10-bit, 23-ch., 300 ksps; AEC-Q100: FALSE; Comparators: 2; Debug Interface: C2; Dig I/O Pins: 16; Flash: 32 kB; Internal Osc. Accuracy: +/-2%; MCU Core: 8051; MHz: 25; PCA Channels: 6; RAM: 4.25 kB; Temp Sensor: TRUE; Timers (16-bit): 4; Sub-Family: Low-Power MCUs; DatasheetVersion: Rev. 1.3; PackageReference: QFN-24; PackageDescription: 24-Pin Quad-Flat No-Leads Package, Body 4 x 4 mm, Pitch 0.5 mm; Supplier 1: Digi-Key; Supplier Part Number 1: C8051F921-F-GM-ND; Supplier 2: Mouser; Supplier Part Number 2: 634-C8051F921-F-GM; Mounting Technology: Surface Mount; Code_JEDEC: MO-220; Code_IPC: J-STD-020; ComponentLink1Description: Manufacturer URL; ComponentLink1URL: http://www.silabs.com/; ComponentLink2Description: Datasheet; ComponentLink2URL: http://www.silabs.com/Support Documents/TechnicalDocs/C8051F96x.pdf; ComponentLink3Description: Package Specification; ComponentLink3URL: http://www.silabs.com/Support%20Documents/TechnicalDocs/C8051F93x-92x.pdf
footprint SLAB-QFN-24-2675x2675TP_N (QFN, 24-Leads, Body 4x4mm, Pitch 0.5mm, Thermal Pad 2.68x2.68mm, IPC Medium Density)
footprint SLAB-QFN-24-2675x2675TP_L (QFN, 24-Leads, Body 4x4mm, Pitch 0.5mm, Thermal Pad 2.68x2.68mm, IPC High Density)
footprint SLAB-QFN-24-2675x2675TP_M (QFN, 24-Leads, Body 4x4mm, Pitch 0.5mm, Thermal Pad 2.68x2.68mm, IPC Low Density)
pins: 1 GND/DC- (power), 2 GND (power) "Required Ground.", 3 VDD/DC+ (power), 4 DCEN (in) "DC-DC Enable Pin. In single-cell battery mode, this pin  must be connected to VBAT through a 0.68 uH inductor. In dual-cell battery mode, this pin must be connected  directly to ground.", 5 VBAT (power) "Battery Supply Voltage. Must be 0.9 to 1.8 V in single-cell  battery mode and 1.8 to 3.6 V in dual-cell battery mode.", 6 ~{RST}/C2CK (io), 7 P2.7/C2D (io), 8 XTAL4 "SmaRTClock Oscillator Crystal Output. See Section 20 for a complete description.", 9 XTAL3 "SmaRTClock Oscillator Crystal Input. See Section 20 for a complete description", 10 P1.6 (io) "Port 1.6. See Port I/O Section for a complete description", 11 P1.5 (io) "Port 1.5. See Port I/O Section for a complete description.", 12 P1.4 (io) "Port 1.4. See Port I/O Section for a complete description.", 13 P1.3 (io) "Port 1.3. See Port I/O Section for a complete description. May also be used as NSS for SPI1.", 14 P1.2 (io) "Port 1.2. See Port I/O Section for a complete description. May also be used as MOSI for SPI1.", 15 P1.1 (io) "Port 1.1. See Port I/O Section for a complete description. May also be used as MISO for SPI1.", 16 P1.0 (io) "Port 1.0. See Port I/O Section for a complete description.  May also be used as SCK for SPI1.", 17 P0.7/IREF0 (io), 18 P0.6/CNVSTR (io), 19 P0.5/RX (io), 20 P0.4/TX (io), 21 P0.3/XTAL2 (io), 22 P0.2/XTAL1 (io), 23 P0.1/AGND (io), 24 P0.0/VREF (io), 25 GND (power) "Required Ground."

## C8051F921-GM
designator U?
Single / Dual Battery, 0.9 to 3.6 V, smaRTClock, 10-Bit ADC MCU, 25 MHz, 4.25 kB RAM, 32 kB Flash, -40 to 85 degC, 24-pin QFN; Manufacturer: Silicon Labs; PartNumber: C8051F921-GM; ADC 1: 10-bit, 15-ch., 300 ksps; AEC-Q100: FALSE; Comparators: 2; Debug Interface: C2; Dig I/O Pins: 16; Flash: 32 kB; Internal Osc. Accuracy: +/-2%; MCU Core: 8051; MHz: 25; PCA Channels: 6; RAM: 4.25 kB; Temp Sensor: TRUE; Timers (16-bit): 4; Sub-Family: Low-Power MCUs; DatasheetVersion: Rev. 1.3; PackageReference: QFN-24; PackageDescription: 24-Pin Quad-Flat No-Leads Package, Body 4 x 4 mm, Pitch 0.5 mm; Supplier 1: Digi-Key; Supplier Part Number 1: 336-1471-ND; Supplier 2: Farnell; Supplier Part Number 2: 1558934; Supplier 3: Mouser; Supplier Part Number 3: 634-C8051F921-GM; Mounting Technology: Surface Mount; Code_JEDEC: MO-220; Code_IPC: J-STD-020; ComponentLink1Description: Manufacturer URL; ComponentLink1URL: http://www.silabs.com/; ComponentLink2Description: Datasheet; ComponentLink2URL: http://www.silabs.com/Support Documents/TechnicalDocs/C8051F93x-92x.pdf; ComponentLink3Description: Package Specification; ComponentLink3URL: http://www.silabs.com/Support%20Documents/TechnicalDocs/C8051F93x-92x.pdf
footprint SLAB-QFN-24-2675x2675TP_N (QFN, 24-Leads, Body 4x4mm, Pitch 0.5mm, Thermal Pad 2.68x2.68mm, IPC Medium Density)
footprint SLAB-QFN-24-2675x2675TP_L (QFN, 24-Leads, Body 4x4mm, Pitch 0.5mm, Thermal Pad 2.68x2.68mm, IPC High Density)
footprint SLAB-QFN-24-2675x2675TP_M (QFN, 24-Leads, Body 4x4mm, Pitch 0.5mm, Thermal Pad 2.68x2.68mm, IPC Low Density)
pins: 1 GND/DC- (power), 2 GND (power) "Required Ground.", 3 VDD/DC+ (power), 4 DCEN (in) "DC-DC Enable Pin. In single-cell battery mode, this pin  must be connected to VBAT through a 0.68 uH inductor. In dual-cell battery mode, this pin must be connected  directly to ground.", 5 VBAT (power) "Battery Supply Voltage. Must be 0.9 to 1.8 V in single-cell  battery mode and 1.8 to 3.6 V in dual-cell battery mode.", 6 ~{RST}/C2CK (io), 7 P2.7/C2D (io), 8 XTAL4 "SmaRTClock Oscillator Crystal Output. See Section 20 for a complete description.", 9 XTAL3 "SmaRTClock Oscillator Crystal Input. See Section 20 for a complete description", 10 P1.6 (io) "Port 1.6. See Port I/O Section for a complete description", 11 P1.5 (io) "Port 1.5. See Port I/O Section for a complete description.", 12 P1.4 (io) "Port 1.4. See Port I/O Section for a complete description.", 13 P1.3 (io) "Port 1.3. See Port I/O Section for a complete description. May also be used as NSS for SPI1.", 14 P1.2 (io) "Port 1.2. See Port I/O Section for a complete description. May also be used as MOSI for SPI1.", 15 P1.1 (io) "Port 1.1. See Port I/O Section for a complete description. May also be used as MISO for SPI1.", 16 P1.0 (io) "Port 1.0. See Port I/O Section for a complete description.  May also be used as SCK for SPI1.", 17 P0.7/IREF0 (io), 18 P0.6/CNVSTR (io), 19 P0.5/RX (io), 20 P0.4/TX (io), 21 P0.3/XTAL2 (io), 22 P0.2/XTAL1 (io), 23 P0.1/AGND (io), 24 P0.0/VREF (io), 25 GND (power) "Required Ground."

## C8051F930-F-GM
designator U?
Single / Dual Battery, 0.9 to 3.6 V, smaRTClock, 10-Bit ADC MCU, 25 MHz, 4.25 kB RAM, 64 kB Flash, -40 to 85 degC, 32-pin QFN; Manufacturer: Silicon Labs; PartNumber: C8051F930-F-GM; ADC 1: 10-bit, 23-ch., 300 ksps; AEC-Q100: FALSE; Comparators: 2; Debug Interface: C2; Dig I/O Pins: 24; Flash: 64 kB; Internal Osc. Accuracy: +/-2%; MCU Core: 8051; MHz: 25; PCA Channels: 6; RAM: 4.25 kB; Temp Sensor: TRUE; Timers (16-bit): 4; Sub-Family: Low-Power MCUs; DatasheetVersion: Rev. 1.3; PackageReference: QFN-32; PackageDescription: 32-Pin Quad-Flat No-Leads Package, Body 5 x 5 mm, Pitch 0.5 mm; Supplier 1: Digi-Key; Supplier Part Number 1: C8051F930-F-GM-ND; Supplier 2: Mouser; Supplier Part Number 2: 634-C8051F930-F-GM; Mounting Technology: Surface Mount; Code_JEDEC: MO-220; Code_IPC: J-STD-020; ComponentLink1Description: Manufacturer URL; ComponentLink1URL: http://www.silabs.com/; ComponentLink2Description: Datasheet; ComponentLink2URL: http://www.silabs.com/Support Documents/TechnicalDocs/C8051F96x.pdf; ComponentLink3Description: Package Specification; ComponentLink3URL: http://www.silabs.com/Support%20Documents/TechnicalDocs/C8051F50x-51x.pdf
footprint SLAB-QFN-32-3300x3300TP_N (QFN, 32-Leads, Body 5x5mm, Pitch 0.5mm, Thermal Pad 3.3x3.3mm, IPC Medium Density)
footprint SLAB-QFN-32-3300x3300TP_L (QFN, 32-Leads, Body 5x5mm, Pitch 0.5mm, Thermal Pad 3.3x3.3mm, IPC High Density)
footprint SLAB-QFN-32-3300x3300TP_M (QFN, 32-Leads, Body 5x5mm, Pitch 0.5mm, Thermal Pad 3.3x3.3mm, IPC Low Density)
pins: 1 GND/DC- (power), 2 GND (power), 3 VDD/DC+ (power), 4 DCEN (in) "DC-DC Enable Pin. In single-cell battery mode, this pin  must be connected to VBAT through a 0.68 uH inductor. In dual-cell battery mode, this pin must be connected  directly to ground.", 5 VBAT (power) "Battery Supply Voltage. Must be 0.9 to 1.8 V in single-cell  battery mode and 1.8 to 3.6 V in dual-cell battery mode.", 6 ~{RST}/C2CK (io), 7 P2.7/C2D (io), 8 P2.6/~{WR} (io), 9 XTAL4 "SmaRTClock Oscillator Crystal Output. See Section 20 for a complete description.", 10 XTAL3 "SmaRTClock Oscillator Crystal Input. See Section 20 for a complete description.", 11 P2.5/~{RD} (io), 12 P2.4/ALE (io), 13 P2.3/A11 (io), 14 P2.2/A10 (io), 15 P2.1/A9 (io), 16 P2.0/A8 (io), 17 P1.7/AD7 (io), 18 P1.6/AD6 (io), 19 P1.5/AD5 (io), 20 P1.4/AD4 (io), 21 P1.3/AD3 (io), 22 P1.2/AD2 (io), 23 P1.1/AD1 (io), 24 P1.0/AD0 (io), 25 P0.7/IREF0 (io), 26 P0.6/CNVSTR (io), 27 P0.5/RX (io), 28 P0.4/TX (io), 29 P0.3/XTAL2 (io), 30 P0.2/XTAL1 (io), 31 P0.1/AGND (io), 32 P0.0/VREF (io), 33 GND (power) "GND (optional)"

## C8051F930-F-GQ
designator U?
Single / Dual Battery, 0.9 to 3.6 V, smaRTClock, 10-Bit ADC MCU, 25 MHz, 4.25 kB RAM, 64 kB Flash, -40 to 85 degC, 32-pin QFP; Manufacturer: Silicon Labs; PartNumber: C8051F930-F-GQ; ADC 1: 10-bit, 23-ch., 300 ksps; AEC-Q100: FALSE; Comparators: 2; Debug Interface: C2; Dig I/O Pins: 24; Flash: 64 kB; Internal Osc. Accuracy: +/-2%; MCU Core: 8051; MHz: 25; PCA Channels: 6; RAM: 4.25 kB; Temp Sensor: TRUE; Timers (16-bit): 4; Sub-Family: Low-Power MCUs; DatasheetVersion: Rev. 1.3; PackageReference: LQFP-32; PackageDescription: 32-Pin Low-Profile Quad Flat Pack, Body 7 x 7 mm, Pitch 0.8 mm; Supplier 1: Digi-Key; Supplier Part Number 1: C8051F930-F-GQ-ND; Supplier 2: Mouser; Supplier Part Number 2: 634-C8051F930-F-GQ; Mounting Technology: Surface Mount; Code_JEDEC: MS-026; Code_IPC: J-STD-020; ComponentLink1Description: Manufacturer URL; ComponentLink1URL: http://www.silabs.com/; ComponentLink2Description: Datasheet; ComponentLink2URL: http://www.silabs.com/Support Documents/TechnicalDocs/C8051F96x.pdf; ComponentLink3Description: Package Specification; ComponentLink3URL: http://www.silabs.com/Support%20Documents/TechnicalDocs/C8051F38x.pdf
footprint SLAB-LQFP-32_N (QFP, 32-Leads, Body 7x7mm, Pitch 0.8mm, IPC Medium Density)
footprint SLAB-LQFP-32_L (QFP, 32-Leads, Body 7x7mm, Pitch 0.8mm, IPC High Density)
footprint SLAB-LQFP-32_M (QFP, 32-Leads, Body 7x7mm, Pitch 0.8mm, IPC Low Density)
pins: 1 GND/DC- (power), 2 GND (power), 3 VDD/DC+ (power), 4 DCEN (in) "DC-DC Enable Pin. In single-cell battery mode, this pin  must be connected to VBAT through a 0.68 uH inductor. In dual-cell battery mode, this pin must be connected  directly to ground.", 5 VBAT (power) "Battery Supply Voltage. Must be 0.9 to 1.8 V in single-cell  battery mode and 1.8 to 3.6 V in dual-cell battery mode.", 6 ~{RST}/C2CK (io), 7 P2.7/C2D (io), 8 P2.6/~{WR} (io), 9 XTAL4 "SmaRTClock Oscillator Crystal Output. See Section 20 for a complete description.", 10 XTAL3 "SmaRTClock Oscillator Crystal Input. See Section 20 for a complete description.", 11 P2.5/~{RD} (io), 12 P2.4/ALE (io), 13 P2.3/A11 (io), 14 P2.2/A10 (io), 15 P2.1/A9 (io), 16 P2.0/A8 (io), 17 P1.7/AD7 (io), 18 P1.6/AD6 (io), 19 P1.5/AD5 (io), 20 P1.4/AD4 (io), 21 P1.3/AD3 (io), 22 P1.2/AD2 (io), 23 P1.1/AD1 (io), 24 P1.0/AD0 (io), 25 P0.7/IREF0 (io), 26 P0.6/CNVSTR (io), 27 P0.5/RX (io), 28 P0.4/TX (io), 29 P0.3/XTAL2 (io), 30 P0.2/XTAL1 (io), 31 P0.1/AGND (io), 32 P0.0/VREF (io)

## C8051F930-GM
designator U?
Single / Dual Battery, 0.9 to 3.6 V, smaRTClock, 10-Bit ADC MCU, 25 MHz, 4.25 kB RAM, 64 kB Flash, -40 to 85 degC, 32-pin QFN; Manufacturer: Silicon Labs; PartNumber: C8051F930-GM; ADC 1: 10-bit, 23-ch., 300 ksps; AEC-Q100: FALSE; Comparators: 2; Debug Interface: C2; Dig I/O Pins: 24; Flash: 64 kB; Internal Osc. Accuracy: +/-2%; MCU Core: 8051; MHz: 25; PCA Channels: 6; RAM: 4.25 kB; Temp Sensor: TRUE; Timers (16-bit): 4; Sub-Family: Low-Power MCUs; DatasheetVersion: Rev. 1.3; PackageReference: QFN-32; PackageDescription: 32-Pin Quad-Flat No-Leads Package, Body 5 x 5 mm, Pitch 0.5 mm; Supplier 1: Digi-Key; Supplier Part Number 1: 336-1467-ND; Supplier 2: Mouser; Supplier Part Number 2: 634-C8051F930-GM; Mounting Technology: Surface Mount; Code_JEDEC: MO-220; Code_IPC: J-STD-020; ComponentLink1Description: Manufacturer URL; ComponentLink1URL: http://www.silabs.com/; ComponentLink2Description: Datasheet; ComponentLink2URL: http://www.silabs.com/Support Documents/TechnicalDocs/C8051F93x-92x.pdf; ComponentLink3Description: Package Specification; ComponentLink3URL: http://www.silabs.com/Support%20Documents/TechnicalDocs/C8051F50x-51x.pdf
footprint SLAB-QFN-32-3300x3300TP_N (QFN, 32-Leads, Body 5x5mm, Pitch 0.5mm, Thermal Pad 3.3x3.3mm, IPC Medium Density)
footprint SLAB-QFN-32-3300x3300TP_L (QFN, 32-Leads, Body 5x5mm, Pitch 0.5mm, Thermal Pad 3.3x3.3mm, IPC High Density)
footprint SLAB-QFN-32-3300x3300TP_M (QFN, 32-Leads, Body 5x5mm, Pitch 0.5mm, Thermal Pad 3.3x3.3mm, IPC Low Density)
pins: 1 GND/DC- (power), 2 GND (power), 3 VDD/DC+ (power), 4 DCEN (in) "DC-DC Enable Pin. In single-cell battery mode, this pin  must be connected to VBAT through a 0.68 uH inductor. In dual-cell battery mode, this pin must be connected  directly to ground.", 5 VBAT (power) "Battery Supply Voltage. Must be 0.9 to 1.8 V in single-cell  battery mode and 1.8 to 3.6 V in dual-cell battery mode.", 6 ~{RST}/C2CK (io), 7 P2.7/C2D (io), 8 P2.6/~{WR} (io), 9 XTAL4 "SmaRTClock Oscillator Crystal Output. See Section 20 for a complete description.", 10 XTAL3 "SmaRTClock Oscillator Crystal Input. See Section 20 for a complete description.", 11 P2.5/~{RD} (io), 12 P2.4/ALE (io), 13 P2.3/A11 (io), 14 P2.2/A10 (io), 15 P2.1/A9 (io), 16 P2.0/A8 (io), 17 P1.7/AD7 (io), 18 P1.6/AD6 (io), 19 P1.5/AD5 (io), 20 P1.4/AD4 (io), 21 P1.3/AD3 (io), 22 P1.2/AD2 (io), 23 P1.1/AD1 (io), 24 P1.0/AD0 (io), 25 P0.7/IREF0 (io), 26 P0.6/CNVSTR (io), 27 P0.5/RX (io), 28 P0.4/TX (io), 29 P0.3/XTAL2 (io), 30 P0.2/XTAL1 (io), 31 P0.1/AGND (io), 32 P0.0/VREF (io), 33 GND (power) "GND (optional)"

## C8051F930-GQ
designator U?
Single / Dual Battery, 0.9 to 3.6 V, smaRTClock, 10-Bit ADC MCU, 25 MHz, 4.25 kB RAM, 64 kB Flash, -40 to 85 degC, 32-pin QFP; Manufacturer: Silicon Labs; PartNumber: C8051F930-GQ; ADC 1: 10-bit, 23-ch., 300 ksps; AEC-Q100: FALSE; Comparators: 2; Debug Interface: C2; Dig I/O Pins: 24; Flash: 64 kB; Internal Osc. Accuracy: +/-2%; MCU Core: 8051; MHz: 25; PCA Channels: 6; RAM: 4.25 kB; Temp Sensor: TRUE; Timers (16-bit): 4; Sub-Family: Low-Power MCUs; DatasheetVersion: Rev. 1.3; PackageReference: LQFP-32; PackageDescription: 32-Pin Low-Profile Quad Flat Pack, Body 7 x 7 mm, Pitch 0.8 mm; Supplier 1: Digi-Key; Supplier Part Number 1: 336-1466-ND; Supplier 2: Farnell; Supplier Part Number 2: 1558928; Supplier 3: Newark; Supplier Part Number 3: 94M6788; Supplier 4: Mouser; Supplier Part Number 4: 634-C8051F930-GQ; Mounting Technology: Surface Mount; Code_JEDEC: MS-026; Code_IPC: J-STD-020; ComponentLink1Description: Manufacturer URL; ComponentLink1URL: http://www.silabs.com/; ComponentLink2Description: Datasheet; ComponentLink2URL: http://www.silabs.com/Support Documents/TechnicalDocs/C8051F93x-92x.pdf; ComponentLink3Description: Package Specification; ComponentLink3URL: http://www.silabs.com/Support%20Documents/TechnicalDocs/C8051F38x.pdf
footprint SLAB-LQFP-32_N (QFP, 32-Leads, Body 7x7mm, Pitch 0.8mm, IPC Medium Density)
footprint SLAB-LQFP-32_L (QFP, 32-Leads, Body 7x7mm, Pitch 0.8mm, IPC High Density)
footprint SLAB-LQFP-32_M (QFP, 32-Leads, Body 7x7mm, Pitch 0.8mm, IPC Low Density)
pins: 1 GND/DC- (power), 2 GND (power), 3 VDD/DC+ (power), 4 DCEN (in) "DC-DC Enable Pin. In single-cell battery mode, this pin  must be connected to VBAT through a 0.68 uH inductor. In dual-cell battery mode, this pin must be connected  directly to ground.", 5 VBAT (power) "Battery Supply Voltage. Must be 0.9 to 1.8 V in single-cell  battery mode and 1.8 to 3.6 V in dual-cell battery mode.", 6 ~{RST}/C2CK (io), 7 P2.7/C2D (io), 8 P2.6/~{WR} (io), 9 XTAL4 "SmaRTClock Oscillator Crystal Output. See Section 20 for a complete description.", 10 XTAL3 "SmaRTClock Oscillator Crystal Input. See Section 20 for a complete description.", 11 P2.5/~{RD} (io), 12 P2.4/ALE (io), 13 P2.3/AD11 (io), 14 P2.2/AD10 (io), 15 P2.1/AD9 (io), 16 P2.0/AD8 (io), 17 P1.7/AD7 (io), 18 P1.6/AD6 (io), 19 P1.5/AD5 (io), 20 P1.4/AD4 (io), 21 P1.3/AD3 (io), 22 P1.2/AD2 (io), 23 P1.1/AD1 (io), 24 P1.0/AD0 (io), 25 P0.7/IREF0 (io), 26 P0.6/CNVSTR (io), 27 P0.5/RX (io), 28 P0.4/TX (io), 29 P0.3/XTAL2 (io), 30 P0.2/XTAL1 (io), 31 P0.1/AGND (io), 32 P0.0/VREF (io)